# EAGLE library part XR-T7296P (library exar)
DS3/Sonet STS-1 LINE DRIVER
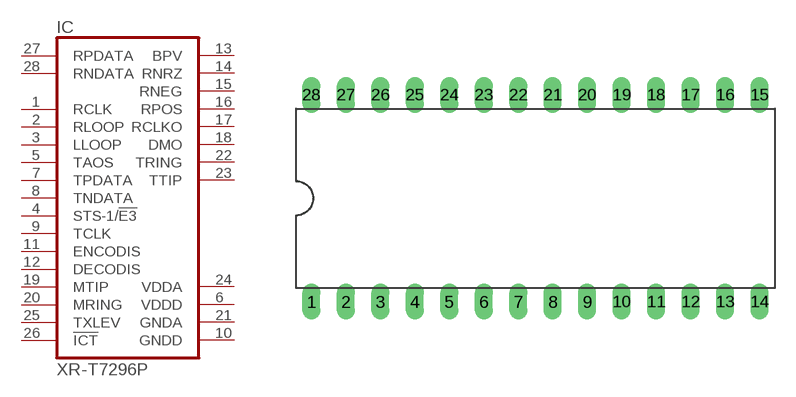
[diagram p22: symbol with the pads of DIL28-6; footprint DIL28-6]

Designator prefix IC

## XR-T7296P  [DIL28-6]
1  RCLK  in
2  RLOOP  in
3  LLOOP  in
4  STS-1/!E3  in
5  TAOS  in
6  VDDD  pwr
7  TPDATA  in
8  TNDATA  in
9  TCLK  in
10  GNDD  pwr
11  ENCODIS  in
12  DECODIS  in
13  BPV  out
14  RNRZ  out
15  RNEG  out
16  RPOS  out
17  RCLKO  out
18  DMO  out
19  MTIP  in
20  MRING  in
21  GNDA  pwr
22  TRING  out
23  TTIP  out
24  VDDA  pwr
25  TXLEV  in
26  !ICT  in
27  RPDATA  in
28  RNDATA  in

## Footprint DIL28-6 (pad centres in mm)
Dual In Line Package 0.6 inch
drill 0.813 long: 1 -16.51,-7.62; 2 -13.97,-7.62; 3 -11.43,-7.62; 4 -8.89,-7.62; 5 -6.35,-7.62; 6 -3.81,-7.62; 7 -1.27,-7.62; 8 1.27,-7.62; 9 3.81,-7.62; 10 6.35,-7.62; 11 8.89,-7.62; 12 11.43,-7.62; 13 13.97,-7.62; 14 16.51,-7.62; 15 16.51,7.62; 16 13.97,7.62; 17 11.43,7.62; 18 8.89,7.62; 19 6.35,7.62; 20 3.81,7.62; 21 1.27,7.62; 22 -1.27,7.62; 23 -3.81,7.62; 24 -6.35,7.62; 25 -8.89,7.62; 26 -11.43,7.62; 27 -13.97,7.62; 28 -16.51,7.62